# Altium footprint library IC_On_Semiconductor_MC74HC595ADG_eec_IPC_C.PcbLib: 1 footprints
Each footprint in its own frame and in the unit in brackets; x right, y up, seen from the top. Pads: shape width x height; smd on the part's side, far side on the other; paste and mask are expansions set on the pad; w line width, h text height; cw(c..) or ccw(c..) is an arc to the next point about the centre after c.
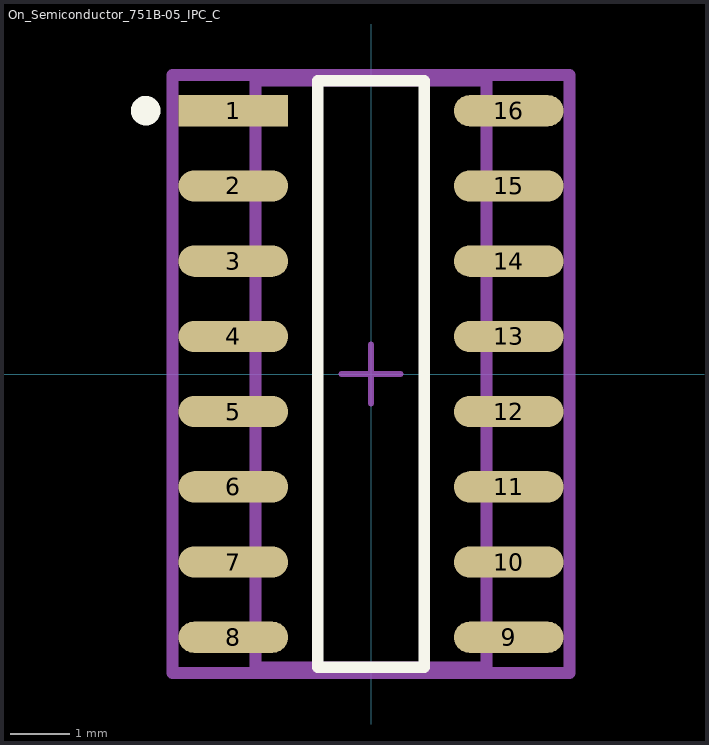
[diagram p0: the footprint, top view; thin cyan lines are the x and y axes]

## On_Semiconductor_751B-05_IPC_C [mil]
pads (16):
  rect 73x20.74 smd paste+0 mask+0: 1(-91.58,175)
  rrect100% 73x20.74 smd paste+0 mask+0: 2(-91.58,125) 3(-91.58,75) 4(-91.58,25) 5(-91.58,-25) 6(-91.58,-75) 7(-91.58,-125) 8(-91.58,-175) 9(91.58,-175) 10(91.58,-125) 11(91.58,-75) 12(91.58,-25) 13(91.58,25) 14(91.58,75) 15(91.58,125) 16(91.58,175)
Top Overlay:
  circle w9.84: c-149.73,175 r4.92
  lines w7.87: -35.39,-194.88 35.39,-194.88 35.39,194.88 -35.39,194.88 -35.39,-194.88
Mechanical 10:
  lines w7.87: -132.01,-198.82 132.01,-198.82 132.01,198.82 -132.01,198.82 -132.01,-198.82
  text ".Designator" at 0,7.41 h39.37
Mechanical 12:
  lines w7.87: -76.77,-194.88 76.77,-194.88 76.77,194.88 -76.77,194.88 -76.77,-194.88
Mechanical 15:
  lines w3.94: -19.68,0 19.68,0 ; 0,-19.68 0,19.68
  lines w7.87: -132.01,-198.82 132.01,-198.82 132.01,198.82 -132.01,198.82 -132.01,-198.82
3D body "IC_On_Semiconductor_MC74HC595ADG_eec.STEP": height 10, standoff 0, extent -132.01,-198.82 132.01,198.82